# Altium footprint library SwitchesButtons.PcbLib: 3 footprints
Each footprint in its own frame and in the unit in brackets; x right, y up, seen from the top. Pads: shape width x height; smd on the part's side, far side on the other; paste and mask are expansions set on the pad; w line width, h text height; cw(c..) or ccw(c..) is an arc to the next point about the centre after c.
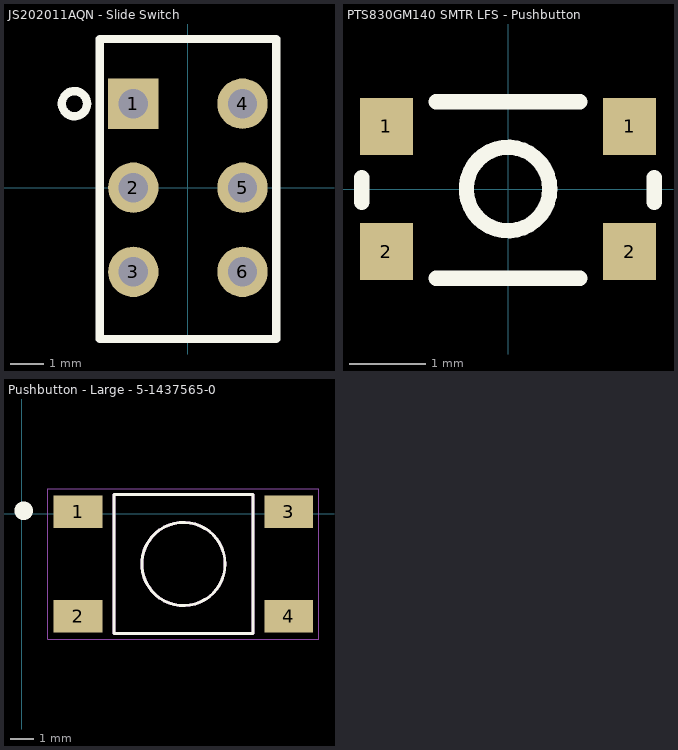
[diagram p0: the footprints below, top view; thin cyan lines are the x and y axes]

## JS202011AQN - Slide Switch [mil]
pads (6):
  rect 60x60 hole 35: 1(-65,100)
  round 60 hole 35: 2(-65,0) 3(-65,-100) 4(65,100) 5(65,0) 6(65,-100)
Top Overlay:
  circle w10: c-135,100 r15
  lines w10: -105,-180 -105,177 105,177 105,-180 -105,-180
3D body "JS202011AQN - Slide Switch v1.step": height 138.58, standoff -117.32, extent -147.64,-178.15 72.83,176.18
3D body: height 90.55, standoff -23.62, extent 127.95,-37.4 127.95,-37.4

## PTS830GM140 SMTR LFS - Pushbutton [mm] "Low profile pushbutton"
height 0.036
pads (4):
  rect 0.7x0.75 smd: 1(-1.6,0.825) 1(1.6,0.825) 2(-1.6,-0.825) 2(1.6,-0.825)
Top Overlay:
  circle w0.2: c0,0 r0.55
  lines w0.2: -1.925,-0.175 -1.925,0.15 ; -0.95,-1.175 0.95,-1.175 ; -0.95,1.15 0.95,1.15 ; 1.925,-0.175 1.925,0.15
3D body "PTS830GM140 SMTR LFS - Pushbutton v2.step": height 1.4, standoff 0, extent -1.75,-1.3 1.75,1.3

## Pushbutton - Large - 5-1437565-0 [mm]
pads (4):
  rect 2.1x1.4 smd: 1(2.435,0.091) 2(2.435,-4.409) 3(11.535,0.091) 4(11.535,-4.409)
Top Overlay:
  circle w0.127: c6.985,-2.159 r1.796
  circle w0.4: c0.085,0.141 r0.2
  lines w0.127: 3.985,-5.159 3.985,0.841 9.985,0.841 9.985,-5.159 3.985,-5.159
Mechanical 1:
  circle w0.127: c6.985,-2.159 r1.796
  lines w0.127: 3.985,-5.159 3.985,0.841 9.985,0.841 9.985,-5.159 3.985,-5.159
Mechanical 4:
  lines w0.05: 1.135,-5.409 12.835,-5.409 12.835,1.091 1.135,1.091 1.135,-5.409